# Altium footprint library Multiplexer.PcbLib: 6 footprints
Each footprint in its own frame and in the unit in brackets; x right, y up, seen from the top. Pads: shape width x height; smd on the part's side, far side on the other; paste and mask are expansions set on the pad; w line width, h text height; cw(c..) or ccw(c..) is an arc to the next point about the centre after c.
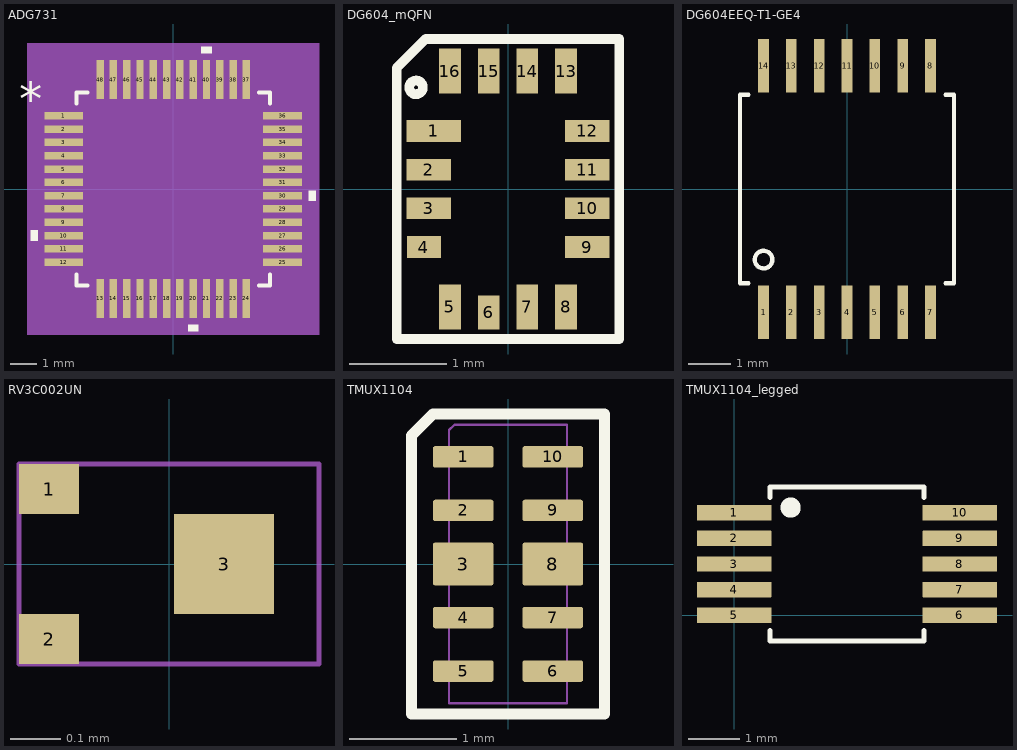
[diagram p0: the footprints below, top view; thin cyan lines are the x and y axes]

## ADG731 [mil]
pads (48):
  rect 57.56x11 smd paste+0 mask+0: 1(-162,108.27) 2(-162,88.58) 3(-162,68.9) 4(-162,49.21) 5(-162,29.53) 6(-162,9.84) 7(-162,-9.84) 8(-162,-29.53) 9(-162,-49.21) 10(-162,-68.9) 11(-162,-88.58) 12(-162,-108.27) 25(162,-108.27) 26(162,-88.58) 27(162,-68.9) 28(162,-49.21) 29(162,-29.53) 30(162,-9.84) 31(162,9.84) 32(162,29.53) 33(162,49.21) 34(162,68.9) 35(162,88.58) 36(162,108.27)
  rect 11x57.56 smd paste+0 mask+0: 13(-108.27,-162) 14(-88.58,-162) 15(-68.9,-162) 16(-49.21,-162) 17(-29.53,-162) 18(-9.84,-162) 19(9.84,-162) 20(29.53,-162) 21(49.21,-162) 22(68.9,-162) 23(88.58,-162) 24(108.27,-162) 37(108.27,162) 38(88.58,162) 39(68.9,162) 40(49.21,162) 41(29.53,162) 42(9.84,162) 43(-9.84,162) 44(-29.53,162) 45(-49.21,162) 46(-68.9,162) 47(-88.58,162) 48(-108.27,162)
Top Overlay:
  region: -200.78,-61.4 -210.78,-61.4 -210.78,-76.4 -200.78,-76.4
  region: 37.03,-200.78 22.03,-200.78 22.03,-210.78 37.03,-210.78
  region: 200.78,-2.34 210.78,-2.34 210.78,-17.34 200.78,-17.34
  region: 56.71,200.78 41.71,200.78 41.71,210.78 56.71,210.78
  lines w6: -143,-126.87 -143,-143 -126.87,-143 ; -143,126.87 -143,143 -126.87,143 ; 126.87,-143 143,-143 143,-126.87 ; 126.87,143 143,143 143,126.87
  text "*" at -228.28,108.11 h50
Mechanical 5:
  region: 215.78,-215.78 -215.78,-215.78 -215.78,215.78 215.78,215.78
Mechanical 13:
  drawing of 197 lines, arcs and shapes, not listed
  text "*" at -135.5,93.11 h50
Mechanical 15:
  region: -123.77,-148 -148,-148 -148,-123.77 -200.78,-123.77 -200.78,123.77 -148,123.77 -148,148 -123.77,148 -123.77,200.78 123.77,200.78 123.77,148 148,148 148,123.77 200.78,123.77 200.78,-123.77 148,-123.77 148,-148 123.77,-148 123.77,-200.78 -123.77,-200.78
  lines w6: -200.78,-123.77 -148,-123.77 -148,-148 -123.77,-148 -123.77,-200.78 123.77,-200.78 123.77,-148 148,-148 148,-123.77 200.78,-123.77 200.78,123.77 148,123.77 148,148 123.77,148 123.77,200.78 -123.77,200.78 -123.77,148 -148,148 -148,123.77 -200.78,123.77 -200.78,-123.77
3D body "SU_48_ADI.step": height 47.09, standoff 0, extent -177.01,-177.01 177.01,177.01

## DG604_mQFN [mm] "vishay, 4-Channel +-5V multiplexer"
height 0.025
pads (16):
  rect 0.562x0.225 smd mask+0.08: 1(-0.769,0.6)
  rect 0.463x0.225 smd mask+0.08: 2(-0.819,0.2) 3(-0.819,-0.2) 9(0.819,-0.6) 10(0.819,-0.2) 11(0.819,0.2) 12(0.819,0.6)
  rect 0.35x0.225 smd mask+0.08: 4(-0.869,-0.6)
  rect 0.225x0.463 smd mask+0.08: 5(-0.6,-1.219) 7(0.2,-1.219) 8(0.6,-1.219) 13(0.6,1.219) 14(0.2,1.219) 15(-0.2,1.219) 16(-0.6,1.219)
  rect 0.225x0.35 smd mask+0.08: 6(-0.2,-1.275)
Top Overlay:
  circle w0.1: c-0.95,1.05 r0.071
  lines w0.1: -1.15,-1.55 1.15,-1.55 1.15,1.55 -0.85,1.55 -1.15,1.25 -1.15,-1.55
3D body: height 0.6, standoff 0, extent -0.9,-1.3 0.9,1.3

## DG604EEQ-T1-GE4 [mm] "Multiplex-Schalter IC CMOS 4:1 Multiplxr 14-pin TSSOP"
pads (14):
  rect 0.25x1.25 smd: 1(-1.95,-2.88) 2(-1.3,-2.88) 3(-0.65,-2.88) 4(0,-2.88) 5(0.65,-2.88) 6(1.3,-2.88) 7(1.95,-2.88) 8(1.95,2.88) 9(1.3,2.88) 10(0.65,2.88) 11(0,2.88) 12(-0.65,2.88) 13(-1.3,2.88) 14(-1.95,2.88)
Top Overlay:
  circle w0.1: c-1.95,-1.65 r0.206
  lines w0.1: -2.3,-2.2 -2.5,-2.2 -2.5,-2.05 -2.5,2.2 -2.3,2.2 ; 2.3,-2.2 2.5,-2.2 2.5,2.2 2.3,2.2
3D body: height 1.2, standoff 0, extent -2.5,-2.2 2.5,2.2

## RV3C002UN [mm] "DFN0604 N-Channel Mosfet"
pads (3):
  rect 0.12x0.1 smd: 1(-0.24,0.15) 2(-0.24,-0.15)
  rect 0.2x0.2 smd: 3(0.11,0)
Mechanical 1:
  lines w0.01: -0.3,-0.2 -0.3,0.2 0.3,0.2 0.3,-0.2 -0.3,-0.2

## TMUX1104 [mm] "4:1 MUX"
height 0.05
pads (10):
  rrect20% 0.565x0.2 smd: 1(-0.418,1) 2(-0.418,0.5) 4(-0.418,-0.5) 5(-0.418,-1) 6(0.418,-1) 7(0.418,-0.5) 9(0.418,0.5) 10(0.418,1)
  rrect10% 0.565x0.4 smd: 3(-0.418,0) 8(0.418,0)
Top Overlay:
  lines w0.1: -0.9,-1.4 -0.9,1.2 -0.7,1.4 0.9,1.4 0.9,-1.4 -0.9,-1.4
Mechanical 1:
  lines w0.02: -0.55,-1.3 0.55,-1.3 0.55,1.3 -0.5,1.3 -0.55,1.25 -0.55,-1.3
3D body: height 0.55, standoff 0, extent -0.55,-1.3 0.55,1.298

## TMUX1104_legged [mm]
pads (10):
  rrect5% 1.45x0.3 smd: 1(0,2) 2(0,1.5) 3(0,1) 4(0,0.5) 5(0,0) 6(4.4,0) 7(4.4,0.5) 8(4.4,1) 9(4.4,1.5) 10(4.4,2)
Top Overlay:
  circle w0.254: c1.1,2.1 r0.071
  lines w0.1: 0.7,-0.3 0.7,-0.5 3.7,-0.5 3.7,-0.3 ; 0.7,2.3 0.7,2.5 3.7,2.5 3.7,2.3
3D body: height 1.1, standoff 0, extent 0.65,-0.55 3.75,2.55